# Altium integrated library NFA18SL307V1A45L.IntLib: 1 symbol
Pins are listed as number, name and electrical type; pins without a type are passive.

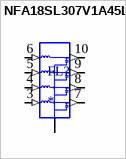
[diagram p0: symbol NFA18SL307V1A45L]

## NFA18SL307V1A45L
designator FL?
EMI Filter 0.1A 10VDC Flat Style SMD Embossed T/R; MP: NFA18SL307V1A45L; Package: None; Price: None; Value: *; Availability: Unavailable
footprint FIL_NFA18SL307V1A45L
pins: 1 GND (power), 1_1 GND (power), 1_2 GND (power), 1_3 GND (power), 1_4 GND (power), 1_5 GND (power), 2 GND (power), 3 IN1 (in), 4 IN2 (in), 5 IN3 (in), 6 IN4 (in), 7 OUT1 (out), 8 OUT2 (out), 9 OUT3 (out), 10 OUT4 (out)